# Altium schematic symbol library Triac,800V,12A,Thru.Schlib: 1 symbol
Pins are listed as number, name and electrical type; pins without a type are passive.

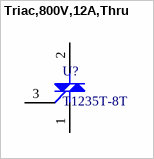
[diagram p0: symbol Triac,800V,12A,Thru]

## Triac,800V,12A,Thru
designator U?, comment T1235T-8T
TRIAC Alternistor - Snubberless 800V 12A Through Hole TO-220AB
pins: 1 A1, 2 A2, 3 G